# Altium schematic symbol library FPGA_Xilinx_Virtex7.SchLib: 34 symbols (part 8 of 26)
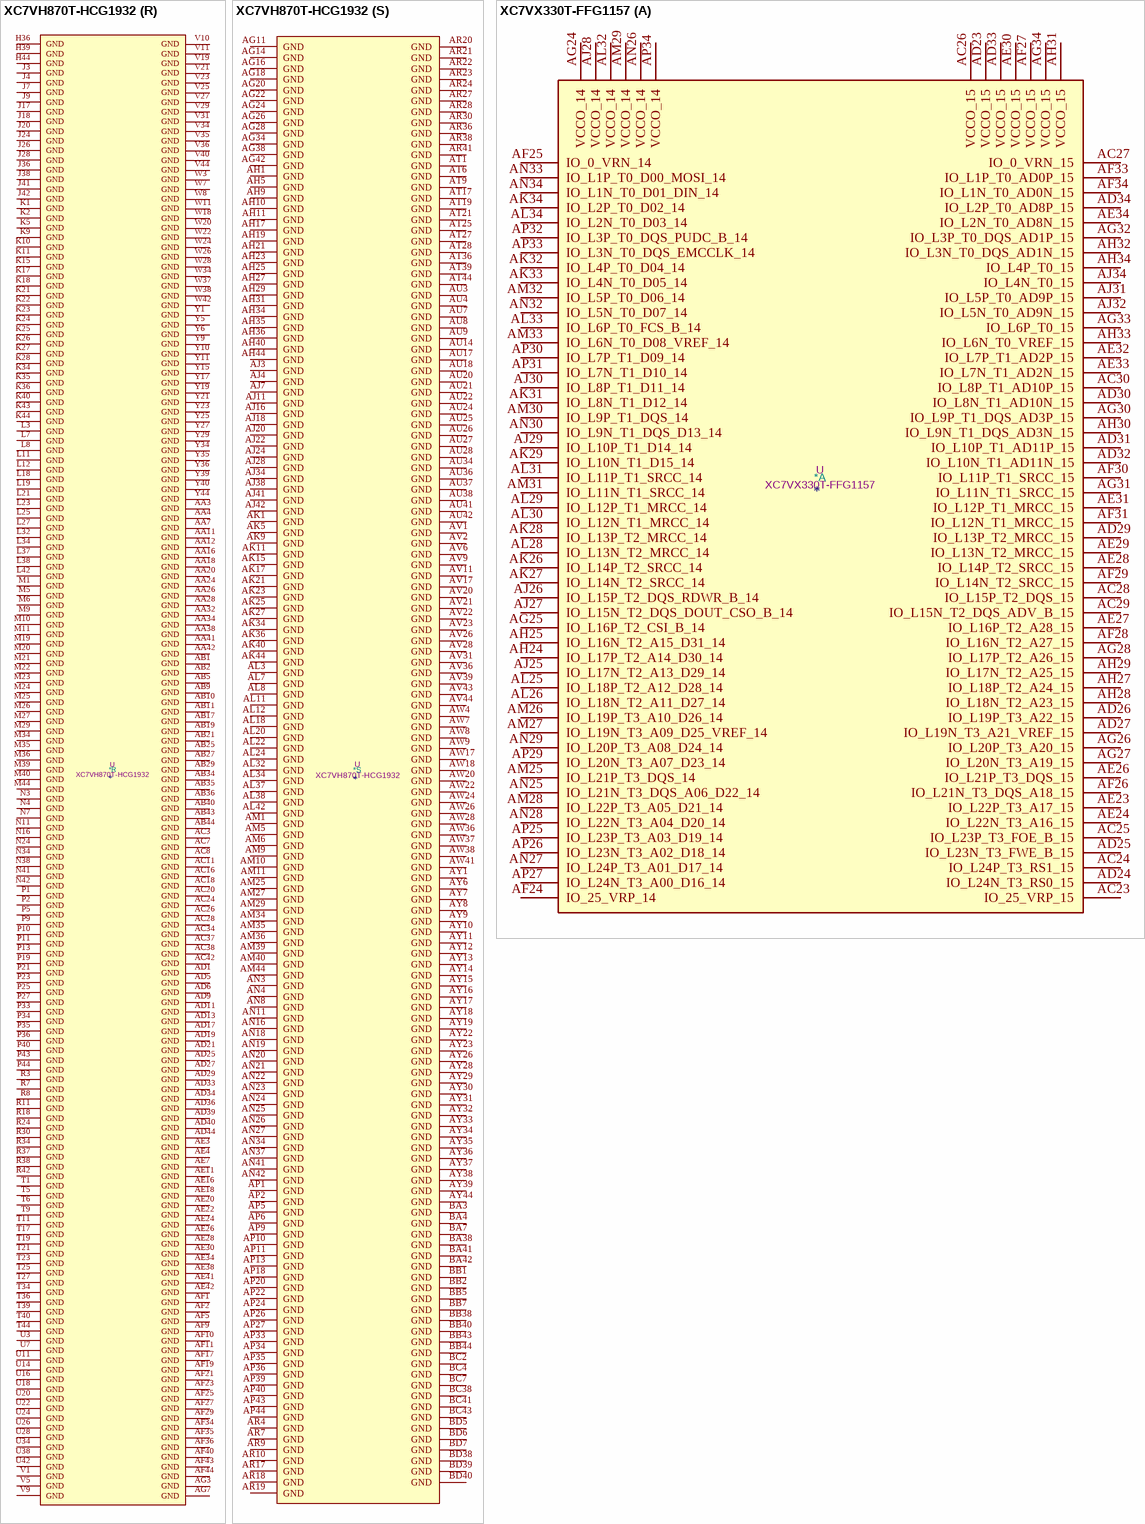
[diagram p179: symbols XC7VH870T-HCG1932 to XC7VX330T-FFG1157]

## XC7VH870T-HCG1932
designator *  value XC7VH870T-HCG1932  Reference: U
Virtex 7 HT 870 XC7VH870T-FLG1932; ki_keywords: FPGA; Description_: Virtex 7 HT 870 XC7VH870T-FLG1932
part A pins: AA30 IO_L11P_T1_SRCC_14, AA31 IO_L11N_T1_SRCC_14, AA33 IO_L7P_T1_D09_14, AB30 IO_L12P_T1_MRCC_14, AB31 IO_L12N_T1_MRCC_14, AB32 IO_L9P_T1_DQS_14, AB33 IO_L9N_T1_DQS_D13_14, AC30 IO_L13P_T2_MRCC_14, AC31 VCCO_14, AC32 IO_L17P_T2_A14_D30_14, AC33 IO_L17N_T2_A13_D29_14, AD30 IO_L13N_T2_MRCC_14, AD31 IO_L14P_T2_SRCC_14, AD32 IO_L14N_T2_SRCC_14, AE31 IO_L16P_T2_CSI_B_14, AE32 IO_L16N_T2_A15_D31_14, AE33 IO_L18P_T2_A12_D28_14, AF30 IO_L15P_T2_DQS_RDWR_B_14, AF31 IO_L15N_T2_DQS_DOUT_CSO_B_14, AF32 VCCO_14, AF33 IO_L18N_T2_A11_D27_14, AG30 IO_L20P_T3_A08_D24_14, AG31 IO_L20N_T3_A07_D23_14, AG32 IO_L19P_T3_A10_D26_14, AG33 IO_L19N_T3_A09_D25_VREF_14, AH30 IO_L23P_T3_A03_D19_14, AH32 IO_L24P_T3_A01_D17_14, AH33 IO_L24N_T3_A00_D16_14, AJ29 IO_25_VRP_14, AJ30 IO_L23N_T3_A02_D18_14, AJ31 IO_L21P_T3_DQS_14, AJ32 IO_L21N_T3_DQS_A06_D22_14, AJ33 VCCO_14, AK28 IO_L16P_T2_13, AK29 IO_L18P_T2_13, AK30 VCCO_13, AK31 IO_L3P_T0_DQS_13, AK32 IO_L22P_T3_A05_D21_14, AK33 IO_L22N_T3_A04_D20_14, AL28 IO_L16N_T2_13, AL29 IO_L18N_T2_13, AL30 IO_L15P_T2_DQS_13, AL31 IO_L3N_T0_DQS_13, AL33 IO_L1P_T0_13, AM28 IO_L17P_T2_13, AM30 IO_L15N_T2_DQS_13, AM31 IO_L5P_T0_13, AM32 IO_L5N_T0_13, AM33 IO_L1N_T0_13, AN28 IO_L17N_T2_13, AN29 IO_L14P_T2_SRCC_13, AN30 IO_L14N_T2_SRCC_13, AN31 VCCO_13, AN32 IO_L4P_T0_13, AN33 IO_L4N_T0_13, AP28 VCCO_13, AP29 IO_L13P_T2_MRCC_13, AP30 IO_L13N_T2_MRCC_13, AP31 IO_L11P_T1_SRCC_13, AP32 IO_L6P_T0_13, AR29 IO_L20P_T3_13, AR31 IO_L11N_T1_SRCC_13, AR32 IO_L6N_T0_VREF_13, AR33 IO_L2P_T0_13, AR34 IO_L2N_T0_13, AR35 VCCO_13, AT29 IO_L20N_T3_13, AT30 IO_L24P_T3_13, AT31 IO_L12P_T1_MRCC_13, AT32 VCCO_13, AT33 IO_L9P_T1_DQS_13, AT34 IO_L9N_T1_DQS_13, AT35 IO_L8P_T1_13, AU29 VCCO_13, AU30 IO_L24N_T3_13, AU31 IO_L12N_T1_MRCC_13, AU32 IO_L7P_T1_13, AU33 IO_L7N_T1_13, AU35 IO_L8N_T1_13, AV29 IO_L22P_T3_13, AV30 IO_L22N_T3_13, AV32 IO_L19P_T3_13, AV33 IO_L21P_T3_DQS_13, AV34 IO_L21N_T3_DQS_13, AV35 IO_L10P_T1_13, AW29 IO_25_VRP_13, AW30 IO_L23P_T3_13, AW31 IO_L23N_T3_13, AW32 IO_L19N_T3_VREF_13, AW33 VCCO_13, AW34 IO_0_VRN_13, AW35 IO_L10N_T1_13, R33 IO_L1N_T0_D01_DIN_14, T29 IO_0_VRN_14, T30 IO_L4N_T0_D05_14, T31 IO_L2N_T0_D03_14, T32 VCCO_14, T33 IO_L1P_T0_D00_MOSI_14, U30 IO_L4P_T0_D04_14, U31 IO_L2P_T0_D02_14, U32 IO_L6N_T0_D08_VREF_14, U33 IO_L5N_T0_D07_14, V30 IO_L3N_T0_DQS_EMCCLK_14, V32 IO_L6P_T0_FCS_B_14, V33 IO_L5P_T0_D06_14, W30 IO_L3P_T0_DQS_PUDC_B_14, W31 IO_L8N_T1_D12_14, W32 IO_L10N_T1_D15_14, W33 VCCO_14, Y30 VCCO_14, Y31 IO_L8P_T1_D11_14, Y32 IO_L10P_T1_D14_14, Y33 IO_L7N_T1_D10_14
part B pins: AK13 IO_L1P_T0_33, AK14 IO_L3P_T0_DQS_33, AK16 IO_L18P_T2_33, AL13 IO_L1N_T0_33, AL14 IO_L3N_T0_DQS_33, AL15 IO_L15P_T2_DQS_33, AL16 IO_L18N_T2_33, AL17 VCCO_33, AM12 IO_L5N_T0_33, AM13 IO_L5P_T0_33, AM14 VCCO_33, AM15 IO_L15N_T2_DQS_33, AM16 IO_L16N_T2_33, AM17 IO_L16P_T2_33, AN12 IO_L4N_T0_33, AN13 IO_L4P_T0_33, AN14 IO_L14N_T2_SRCC_33, AN15 IO_L14P_T2_SRCC_33, AN17 IO_L17P_T2_33, AP12 IO_L6N_T0_VREF_33, AP14 IO_L11P_T1_SRCC_33, AP15 IO_L13N_T2_MRCC_33, AP16 IO_L13P_T2_MRCC_33, AP17 IO_L17N_T2_33, AR11 IO_L2N_T0_33, AR12 IO_L2P_T0_33, AR13 IO_L6P_T0_33, AR14 IO_L11N_T1_SRCC_33, AR15 VCCO_33, AR16 IO_L20P_T3_33, AT10 IO_L8P_T1_33, AT11 IO_L9P_T1_DQS_33, AT12 VCCO_33, AT13 IO_L12N_T1_MRCC_33, AT14 IO_L12P_T1_MRCC_33, AT15 IO_L24P_T3_33, AT16 IO_L20N_T3_33, AU10 IO_L8N_T1_33, AU11 IO_L9N_T1_DQS_33, AU12 IO_L7N_T1_33, AU13 IO_L7P_T1_33, AU15 IO_L24N_T3_33, AU16 IO_25_VRP_33, AV10 IO_L10P_T1_33, AV12 IO_L19N_T3_VREF_33, AV13 IO_L19P_T3_33, AV14 IO_L22N_T3_33, AV15 IO_L22P_T3_33, AV16 VCCO_33, AW10 IO_L10N_T1_33, AW11 IO_L21N_T3_DQS_33, AW12 IO_L21P_T3_DQS_33, AW13 VCCO_33, AW14 IO_0_VRN_33, AW15 IO_L23N_T3_33, AW16 IO_L23P_T3_33, F29 IO_L8P_T1_AD10P_15, F30 IO_L8N_T1_AD10N_15, F31 IO_L9N_T1_DQS_AD3N_15, F32 VCCO_15, F33 IO_L10P_T1_AD11P_15, F34 IO_L10N_T1_AD11N_15, F35 IO_0_VRN_15, G29 VCCO_15, G30 IO_L6N_T0_VREF_15, G31 IO_L9P_T1_DQS_AD3P_15, G32 IO_L12N_T1_MRCC_15, G33 IO_L7N_T1_AD2N_15, G35 IO_L21N_T3_DQS_A18_15, H29 IO_L6P_T0_15, H30 IO_L18N_T2_A23_15, H32 IO_L12P_T1_MRCC_15, H33 IO_L7P_T1_AD2P_15, H34 IO_L21P_T3_DQS_15, H35 IO_L19N_T3_A21_VREF_15, J29 IO_L4N_T0_15, J30 IO_L18P_T2_A24_15, J31 IO_L17N_T2_A25_15, J32 IO_L11N_T1_SRCC_15, J33 VCCO_15, J34 IO_L24N_T3_RS0_15, J35 IO_L19P_T3_A22_15, K29 IO_L4P_T0_15, K30 VCCO_15, K31 IO_L17P_T2_A26_15, K32 IO_L11P_T1_SRCC_15, K33 IO_L24P_T3_RS1_15, L28 IO_L1P_T0_AD0P_15, L29 IO_L1N_T0_AD0N_15, L30 IO_L14N_T2_SRCC_15, L31 IO_L13N_T2_MRCC_15, L33 IO_25_VRP_15, M28 IO_L3N_T0_DQS_AD1N_15, M30 IO_L14P_T2_SRCC_15, M31 IO_L13P_T2_MRCC_15, M32 IO_L22N_T3_A16_15, M33 IO_L23N_T3_FWE_B_15, N28 IO_L3P_T0_DQS_AD1P_15, N29 IO_L5N_T0_AD9N_15, N30 IO_L15N_T2_DQS_ADV_B_15, N31 VCCO_15, N32 IO_L22P_T3_A17_15, N33 IO_L23P_T3_FOE_B_15, P28 VCCO_15, P29 IO_L5P_T0_AD9P_15, P30 IO_L15P_T2_DQS_15, P31 IO_L16N_T2_A27_15, P32 IO_L20N_T3_A19_15, R28 IO_L2P_T0_AD8P_15, R29 IO_L2N_T0_AD8N_15, R31 IO_L16P_T2_A28_15, R32 IO_L20P_T3_A20_15
part C pins: AA13 IO_L9P_T1_DQS_34, AA14 IO_L11N_T1_SRCC_34, AA15 IO_L11P_T1_SRCC_34, AB12 IO_L17N_T2_34, AB13 IO_L17P_T2_34, AB14 VCCO_34, AB15 IO_L12P_T1_MRCC_34, AC12 IO_L16P_T2_34, AC13 IO_L14N_T2_SRCC_34, AC14 IO_L14P_T2_SRCC_34, AC15 IO_L12N_T1_MRCC_34, AD12 IO_L16N_T2_34, AD14 IO_L13N_T2_MRCC_34, AD15 IO_L13P_T2_MRCC_34, AE12 IO_L18N_T2_34, AE13 IO_L18P_T2_34, AE14 IO_L15P_T2_DQS_34, AE15 VCCO_34, AF12 VCCO_34, AF13 IO_L19P_T3_34, AF14 IO_L15N_T2_DQS_34, AF15 IO_L20P_T3_34, AG12 IO_L24P_T3_34, AG13 IO_L19N_T3_VREF_34, AG15 IO_L20N_T3_34, AH12 IO_L24N_T3_34, AH13 IO_L21N_T3_DQS_34, AH14 IO_L21P_T3_DQS_34, AH15 IO_L23P_T3_34, AJ12 IO_L22P_T3_34, AJ13 VCCO_34, AJ14 IO_25_VRP_34, AJ15 IO_L23N_T3_34, AK12 IO_L22N_T3_34, F10 IO_0_VRN_35, F11 IO_L19N_T3_VREF_35, F12 VCCO_35, F13 IO_L10N_T1_AD15N_35, F14 IO_L10P_T1_AD15P_35, F15 IO_L9N_T1_DQS_AD7N_35, F16 IO_L9P_T1_DQS_AD7P_35, G10 IO_L24N_T3_35, G11 IO_L19P_T3_35, G12 IO_L7N_T1_AD6N_35, G13 IO_L7P_T1_AD6P_35, G15 IO_L18N_T2_35, G16 IO_L18P_T2_35, H10 IO_L24P_T3_35, H12 IO_L8N_T1_AD14N_35, H13 IO_L8P_T1_AD14P_35, H14 IO_L12N_T1_MRCC_35, H15 IO_L17N_T2_35, H16 VCCO_35, J10 IO_L21N_T3_DQS_35, J11 IO_L21P_T3_DQS_35, J12 IO_L23N_T3_35, J13 VCCO_35, J14 IO_L12P_T1_MRCC_35, J15 IO_L17P_T2_35, J16 IO_L4N_T0_35, K12 IO_L23P_T3_35, K13 IO_L11N_T1_SRCC_35, K14 IO_L13N_T2_MRCC_35, K16 IO_L4P_T0_35, L13 IO_L11P_T1_SRCC_35, L14 IO_L13P_T2_MRCC_35, L15 IO_L14N_T2_SRCC_35, L16 IO_L6N_T0_VREF_35, L17 VCCO_35, M12 IO_L22N_T3_35, M13 IO_L20N_T3_35, M14 VCCO_35, M15 IO_L14P_T2_SRCC_35, M16 IO_L6P_T0_35, M17 IO_L1N_T0_AD4N_35, M18 IO_L3N_T0_DQS_AD5N_35, N12 IO_L22P_T3_35, N13 IO_L20P_T3_35, N14 IO_L16N_T2_35, N15 IO_L15N_T2_DQS_35, N17 IO_L1P_T0_AD4P_35, N18 IO_L3P_T0_DQS_AD5P_35, P12 IO_25_VRP_35, P14 IO_L16P_T2_35, P15 IO_L15P_T2_DQS_35, P16 IO_L5N_T0_AD13N_35, P17 IO_L5P_T0_AD13P_35, P18 VCCO_35, R12 IO_L1N_T0_34, R13 IO_L1P_T0_34, R14 IO_L2N_T0_34, R15 VCCO_35, R16 IO_L2N_T0_AD12N_35, R17 IO_L2P_T0_AD12P_35, T12 VCCO_34, T13 IO_L6N_T0_VREF_34, T14 IO_L2P_T0_34, T15 IO_L4N_T0_34, T16 IO_0_VRN_34, U12 IO_L5N_T0_34, U13 IO_L6P_T0_34, U15 IO_L4P_T0_34, V12 IO_L5P_T0_34, V13 IO_L10N_T1_34, V14 IO_L10P_T1_34, V15 IO_L3N_T0_DQS_34, W12 IO_L7N_T1_34, W13 VCCO_34, W14 IO_L8N_T1_34, W15 IO_L3P_T0_DQS_34, Y12 IO_L7P_T1_34, Y13 IO_L9N_T1_DQS_34, Y14 IO_L8P_T1_34
part D pins: AM7 MGTREFCLK0N_111, AM8 MGTREFCLK0P_111, AN1 MGTHTXN3_111, AN2 MGTHTXP3_111, AN9 MGTREFCLK1N_111, AN10 MGTREFCLK1P_111, AP3 MGTHTXN2_111, AP4 MGTHTXP2_111, AP7 MGTREFCLK0N_110, AP8 MGTREFCLK0P_110, AR1 MGTHTXN1_111, AR2 MGTHTXP1_111, AR5 MGTHRXN3_111, AR6 MGTHRXP3_111, AT3 MGTHRXN2_111, AT4 MGTHRXP2_111, AT7 MGTREFCLK1N_110, AT8 MGTREFCLK1P_110, AU1 MGTHTXN0_111, AU2 MGTHTXP0_111, AU5 MGTHRXN1_111, AU6 MGTHRXP1_111, AV3 MGTHRXN0_111, AV4 MGTHRXP0_111, AW1 MGTHTXN3_110, AW2 MGTHTXP3_110, AW5 MGTHRXN3_110, AW6 MGTHRXP3_110, AY3 MGTHRXN2_110, AY4 MGTHRXP2_110, BA1 MGTHTXN2_110, BA2 MGTHTXP2_110, BA5 MGTHRXN1_110, BA6 MGTHRXP1_110, BB3 MGTHTXN1_110, BB4 MGTHTXP1_110, BC5 MGTHRXN0_110, BC6 MGTHRXP0_110, BD3 MGTHTXN0_110, BD4 MGTHTXP0_110
part E pins: AD7 MGTHRXN3_113, AD8 MGTHRXP3_113, AE1 MGTHTXN3_113, AE2 MGTHTXP3_113, AE5 MGTHRXN2_113, AE6 MGTHRXP2_113, AF3 MGTHTXN2_113, AF4 MGTHTXP2_113, AF7 MGTHRXN1_113, AF8 MGTHRXP1_113, AG1 MGTHTXN1_113, AG2 MGTHTXP1_113, AG5 MGTHRXN0_113, AG6 MGTHRXP0_113, AG9 MGTREFCLK0N_113, AG10 MGTREFCLK0P_113, AH3 MGTHTXN0_113, AH4 MGTHTXP0_113, AH7 MGTHRXN3_112, AH8 MGTHRXP3_112, AJ1 MGTHTXN3_112, AJ2 MGTHTXP3_112, AJ5 MGTHRXN2_112, AJ6 MGTHRXP2_112, AJ9 MGTREFCLK1N_113, AJ10 MGTREFCLK1P_113, AK3 MGTHTXN2_112, AK4 MGTHTXP2_112, AK7 MGTREFCLK0N_112, AK8 MGTREFCLK0P_112, AL1 MGTHTXN1_112, AL2 MGTHTXP1_112, AL5 MGTHRXN1_112, AL6 MGTHRXP1_112, AL9 MGTREFCLK1N_112, AL10 MGTREFCLK1P_112, AM3 MGTHTXN0_112, AM4 MGTHTXP0_112, AN5 MGTHRXN0_112, AN6 MGTHRXP0_112
part F pins: AA1 MGTHTXN3_114, AA2 MGTHTXP3_114, AA5 MGTHRXN2_114, AA6 MGTHRXP2_114, AB3 MGTHTXN2_114, AB4 MGTHTXP2_114, AB7 MGTHRXN1_114, AB8 MGTHRXP1_114, AC1 MGTHTXN1_114, AC2 MGTHTXP1_114, AC5 MGTHRXN0_114, AC6 MGTHRXP0_114, AC9 MGTREFCLK0N_114, AC10 MGTREFCLK0P_114, AD3 MGTHTXN0_114, AD4 MGTHTXP0_114, AE9 MGTREFCLK1N_114, AE10 MGTREFCLK1P_114, T7 MGTHRXN3_115, T8 MGTHRXP3_115, U1 MGTHTXN3_115, U2 MGTHTXP3_115, U5 MGTHRXN2_115, U6 MGTHRXP2_115, U9 MGTREFCLK0N_115, U10 MGTREFCLK0P_115, V3 MGTHTXN2_115, V4 MGTHTXP2_115, V7 MGTHRXN1_115, V8 MGTHRXP1_115, W1 MGTHTXN1_115, W2 MGTHTXP1_115, W5 MGTHRXN0_115, W6 MGTHRXP0_115, W9 MGTREFCLK1N_115, W10 MGTREFCLK1P_115, Y3 MGTHTXN0_115, Y4 MGTHTXP0_115, Y7 MGTHRXN3_114, Y8 MGTHRXP3_114
part G pins: F3 MGTHRXN3_117, F4 MGTHRXP3_117, G5 MGTHRXN2_117, G6 MGTHRXP2_117, H3 MGTHRXN1_117, H4 MGTHRXP1_117, J1 MGTHTXN3_117, J2 MGTHTXP3_117, J5 MGTHRXN0_117, J6 MGTHRXP0_117, K3 MGTHTXN2_117, K4 MGTHTXP2_117, L1 MGTHTXN1_117, L2 MGTHTXP1_117, L5 MGTHRXN3_116, L6 MGTHRXP3_116, L9 MGTREFCLK0N_117, L10 MGTREFCLK0P_117, M3 MGTHTXN0_117, M4 MGTHTXP0_117, M7 MGTREFCLK1N_117, M8 MGTREFCLK1P_117, N1 MGTHTXN3_116, N2 MGTHTXP3_116, N5 MGTHRXN2_116, N6 MGTHRXP2_116, N9 MGTREFCLK0N_116, N10 MGTREFCLK0P_116, P3 MGTHTXN2_116, P4 MGTHTXP2_116, P7 MGTHRXN1_116, P8 MGTHRXP1_116, R1 MGTHTXN1_116, R2 MGTHTXP1_116, R5 MGTHRXN0_116, R6 MGTHRXP0_116, R9 MGTREFCLK1N_116, R10 MGTREFCLK1P_116, T3 MGTHTXN0_116, T4 MGTHTXP0_116
part H pins: A5 MGTHRXN3_118, A6 MGTHRXP3_118, AP37 MGTREFCLK0P_210, AP38 MGTREFCLK0N_210, AT37 MGTREFCLK1P_210, AT38 MGTREFCLK1N_210, AW39 MGTHRXP3_210, AW40 MGTHRXN3_210, AW43 MGTHTXP3_210, AW44 MGTHTXN3_210, AY41 MGTHRXP2_210, AY42 MGTHRXN2_210, B3 MGTHTXN3_118, B4 MGTHTXP3_118, BA39 MGTHRXP1_210, BA40 MGTHRXN1_210, BA43 MGTHTXP2_210, BA44 MGTHTXN2_210, BB41 MGTHTXP1_210, BB42 MGTHTXN1_210, BC39 MGTHRXP0_210, BC40 MGTHRXN0_210, BD41 MGTHTXP0_210, BD42 MGTHTXN0_210, C1 MGTHTXN2_118, C2 MGTHTXP2_118, C5 MGTHRXN2_118, C6 MGTHRXP2_118, D3 MGTHRXN1_118, D4 MGTHRXP1_118, E1 MGTHTXN1_118, E2 MGTHTXP1_118, E5 MGTHRXN0_118, E6 MGTHRXP0_118, G1 MGTHTXN0_118, G2 MGTHTXP0_118, H7 MGTREFCLK0N_118, H8 MGTREFCLK0P_118, K7 MGTREFCLK1N_118, K8 MGTREFCLK1P_118
part I pins: AH37 MGTHRXP3_212, AH38 MGTHRXN3_212, AJ39 MGTHRXP2_212, AJ40 MGTHRXN2_212, AJ43 MGTHTXP3_212, AJ44 MGTHTXN3_212, AK37 MGTREFCLK0P_212, AK38 MGTREFCLK0N_212, AK41 MGTHTXP2_212, AK42 MGTHTXN2_212, AL35 MGTREFCLK1P_212, AL36 MGTREFCLK1N_212, AL39 MGTHRXP1_212, AL40 MGTHRXN1_212, AL43 MGTHTXP1_212, AL44 MGTHTXN1_212, AM37 MGTREFCLK0P_211, AM38 MGTREFCLK0N_211, AM41 MGTHTXP0_212, AM42 MGTHTXN0_212, AN35 MGTREFCLK1P_211, AN36 MGTREFCLK1N_211, AN39 MGTHRXP0_212, AN40 MGTHRXN0_212, AN43 MGTHTXP3_211, AN44 MGTHTXN3_211, AP41 MGTHTXP2_211, AP42 MGTHTXN2_211, AR39 MGTHRXP3_211, AR40 MGTHRXN3_211, AR43 MGTHTXP1_211, AR44 MGTHTXN1_211, AT41 MGTHRXP2_211, AT42 MGTHRXN2_211, AU39 MGTHRXP1_211, AU40 MGTHRXN1_211, AU43 MGTHTXP0_211, AU44 MGTHTXN0_211, AV41 MGTHRXP0_211, AV42 MGTHRXN0_211
part J pins: AA39 MGTHRXP2_214, AA40 MGTHRXN2_214, AA43 MGTHTXP3_214, AA44 MGTHTXN3_214, AB37 MGTHRXP1_214, AB38 MGTHRXN1_214, AB41 MGTHTXP2_214, AB42 MGTHTXN2_214, AC35 MGTREFCLK0P_214, AC36 MGTREFCLK0N_214, AC39 MGTHRXP0_214, AC40 MGTHRXN0_214, AC43 MGTHTXP1_214, AC44 MGTHTXN1_214, AD37 MGTHRXP3_213, AD38 MGTHRXN3_213, AD41 MGTHTXP0_214, AD42 MGTHTXN0_214, AE35 MGTREFCLK1P_214, AE36 MGTREFCLK1N_214, AE39 MGTHRXP2_213, AE40 MGTHRXN2_213, AE43 MGTHTXP3_213, AE44 MGTHTXN3_213, AF37 MGTHRXP1_213, AF38 MGTHRXN1_213, AF41 MGTHTXP2_213, AF42 MGTHTXN2_213, AG35 MGTREFCLK0P_213, AG36 MGTREFCLK0N_213, AG39 MGTHRXP0_213, AG40 MGTHRXN0_213, AG43 MGTHTXP1_213, AG44 MGTHTXN1_213, AH41 MGTHTXP0_213, AH42 MGTHTXN0_213, AJ35 MGTREFCLK1P_213, AJ36 MGTREFCLK1N_213, Y37 MGTHRXP3_214, Y38 MGTHRXN3_214
part K pins: L39 MGTHRXP3_216, L40 MGTHRXN3_216, N35 MGTREFCLK0P_216, N36 MGTREFCLK0N_216, N39 MGTHRXP2_216, N40 MGTHRXN2_216, N43 MGTHTXP3_216, N44 MGTHTXN3_216, P37 MGTHRXP1_216, P38 MGTHRXN1_216, P41 MGTHTXP2_216, P42 MGTHTXN2_216, R35 MGTREFCLK1P_216, R36 MGTREFCLK1N_216, R39 MGTHRXP0_216, R40 MGTHRXN0_216, R43 MGTHTXP1_216, R44 MGTHTXN1_216, T37 MGTHRXP3_215, T38 MGTHRXN3_215, T41 MGTHTXP0_216, T42 MGTHTXN0_216, U35 MGTREFCLK0P_215, U36 MGTREFCLK0N_215, U39 MGTHRXP2_215, U40 MGTHRXN2_215, U43 MGTHTXP3_215, U44 MGTHTXN3_215, V37 MGTHRXP1_215, V38 MGTHRXN1_215, V41 MGTHTXP2_215, V42 MGTHTXN2_215, W35 MGTREFCLK1P_215, W36 MGTREFCLK1N_215, W39 MGTHRXP0_215, W40 MGTHRXN0_215, W43 MGTHTXP1_215, W44 MGTHTXN1_215, Y41 MGTHTXP0_215, Y42 MGTHTXN0_215
part L pins: A39 MGTHRXP3_218, A40 MGTHRXN3_218, B41 MGTHTXP3_218, B42 MGTHTXN3_218, C39 MGTHRXP2_218, C40 MGTHRXN2_218, C43 MGTHTXP2_218, C44 MGTHTXN2_218, D41 MGTHRXP1_218, D42 MGTHRXN1_218, E39 MGTHRXP0_218, E40 MGTHRXN0_218, E43 MGTHTXP1_218, E44 MGTHTXN1_218, F41 MGTHRXP3_217, F42 MGTHRXN3_217, G39 MGTHRXP2_217, G40 MGTHRXN2_217, G43 MGTHTXP0_218, G44 MGTHTXN0_218, H37 MGTREFCLK0P_218, H38 MGTREFCLK0N_218, H41 MGTHRXP1_217, H42 MGTHRXN1_217, J39 MGTHRXP0_217, J40 MGTHRXN0_217, J43 MGTHTXP3_217, J44 MGTHTXN3_217, K37 MGTREFCLK1P_218, K38 MGTREFCLK1N_218, K41 MGTHTXP2_217, K42 MGTHTXN2_217, L35 MGTREFCLK0P_217, L36 MGTREFCLK0N_217, L43 MGTHTXP1_217, L44 MGTHTXN1_217, M37 MGTREFCLK1P_217, M38 MGTREFCLK1N_217, M41 MGTHTXP0_217, M42 MGTHTXN0_217
part M pins: AA8 MGTAVCC_G11, AA9 MGTRREF_115, AA10 MGTAVTTRCAL_115, AA35 MGTAVTTRCAL_215, AA36 MGTRREF_215, AA37 MGTAVCC_G21, AB6 MGTAVCC_G11, AB39 MGTAVCC_G21, AC4 MGTAVTT_G11, AC41 MGTAVTT_G21, AD2 MGTAVTT_G11, AD10 MGTVCCAUX_G11, AD35 MGTVCCAUX_G21, AD43 MGTAVTT_G21, AE8 MGTAVCC_G11, AE37 MGTAVCC_G21, AF6 MGTAVCC_G11, AF39 MGTAVCC_G21, AG4 MGTAVTT_G11, AG8 MGTAVCC_G11, AG37 MGTAVCC_G21, AG41 MGTAVTT_G21, AH2 MGTAVTT_G11, AH6 MGTAVCC_G11, AH39 MGTAVCC_G21, AH43 MGTAVTT_G21, AJ8 MGTAVCC_G10, AJ37 MGTAVCC_G20, AK2 MGTAVTT_G10, AK6 MGTAVCC_G10, AK10 MGTVCCAUX_G10, AK35 MGTVCCAUX_G20, AK39 MGTAVCC_G20, AK43 MGTAVTT_G20, AL4 MGTAVTT_G10, AL41 MGTAVTT_G20, AM2 MGTAVTT_G10, AM43 MGTAVTT_G20, AN7 MGTAVCC_G10, AN38 MGTAVCC_G20, AR3 MGTAVTT_G10, AR8 MGTAVCC_G10, AR37 MGTAVCC_G20, AR42 MGTAVTT_G20, AT2 MGTAVTT_G10, AT5 MGTAVCC_G10, AT40 MGTAVCC_G20, AT43 MGTAVTT_G20, AV5 MGTAVCC_G10, AV7 MGTRREF_112, AV8 MGTAVTTRCAL_112, AV37 MGTAVTTRCAL_212, AV38 MGTRREF_212, AV40 MGTAVCC_G20, AW3 MGTAVTT_G10, AW42 MGTAVTT_G20, AY2 MGTAVTT_G10, AY5 MGTAVCC_G10, AY40 MGTAVCC_G20, AY43 MGTAVTT_G20, B6 MGTAVCC_G12, B39 MGTAVCC_G22, BB6 MGTAVCC_G10, BB39 MGTAVCC_G20, BC3 MGTAVTT_G10, BC42 MGTAVTT_G20, C3 MGTAVTT_G12, C42 MGTAVTT_G22, D2 MGTAVTT_G12, D5 MGTAVCC_G12, D40 MGTAVCC_G22, D43 MGTAVTT_G22, F5 MGTAVCC_G12, F7 MGTRREF_118, F8 MGTAVTTRCAL_118, F37 MGTAVTTRCAL_218, F38 MGTRREF_218, F40 MGTAVCC_G22, G3 MGTAVTT_G12, G42 MGTAVTT_G22, H2 MGTAVTT_G12, H5 MGTAVCC_G12, H40 MGTAVCC_G22, H43 MGTAVTT_G22, J8 MGTAVCC_G12, J37 MGTAVCC_G22, K6 MGTAVCC_G12, K39 MGTAVCC_G22, L4 MGTAVTT_G12, L41 MGTAVTT_G22, M2 MGTAVTT_G12, M43 MGTAVTT_G22, N8 MGTAVCC_G12, N37 MGTAVCC_G22, P6 MGTAVCC_G12, P39 MGTAVCC_G22, R4 MGTAVTT_G12, R41 MGTAVTT_G22, T2 MGTAVTT_G12, T10 MGTVCCAUX_G12, T35 MGTVCCAUX_G22, T43 MGTAVTT_G22, U4 MGTAVTT_G11, U8 MGTAVCC_G11, U37 MGTAVCC_G21, U41 MGTAVTT_G21, V2 MGTAVTT_G11, V6 MGTAVCC_G11, V39 MGTAVCC_G21, V43 MGTAVTT_G21, W4 MGTAVTT_G11, W41 MGTAVTT_G21, Y2 MGTAVTT_G11, Y43 MGTAVTT_G21
part N pins: A9 MGTZRXN7_300, A10 MGTZRXP7_300, A12 MGTZRXN5_300, A13 MGTZRXP5_300, A16 MGTZTXN7_300, A17 MGTZTXP7_300, A19 MGTZTXN5_300, A20 MGTZTXP5_300, A24 MGTZRXN3_300, A25 MGTZRXP3_300, A27 MGTZRXN1_300, A28 MGTZRXP1_300, A31 MGTZTXN3_300, A32 MGTZTXP3_300, A34 MGTZTXN1_300, A35 MGTZTXP1_300, AT23 MGTZ_OBS_CLK_P_400, AU23 MGTZ_OBS_CLK_N_400, AV24 MGTZ_THERM_IN_400, AV25 MGTZ_THERM_OUT_400, AY20 MGTZREFCLK1P_400, AY21 MGTZREFCLK1N_400, AY24 MGTZREFCLK0P_400, AY25 MGTZREFCLK0N_400, BB9 MGTZTXP0_400, BB10 MGTZTXN0_400, BB12 MGTZTXP2_400, BB13 MGTZTXN2_400, BB16 MGTZRXP0_400, BB17 MGTZRXN0_400, BB19 MGTZRXP2_400, BB20 MGTZRXN2_400, BB24 MGTZTXP4_400, BB25 MGTZTXN4_400, BB27 MGTZTXP6_400, BB28 MGTZTXN6_400, BB31 MGTZRXP4_400, BB32 MGTZRXN4_400, BB34 MGTZRXP6_400, BB35 MGTZRXN6_400, BD10 MGTZTXP1_400, BD11 MGTZTXN1_400, BD13 MGTZTXP3_400, BD14 MGTZTXN3_400, BD17 MGTZRXP1_400, BD18 MGTZRXN1_400, BD20 MGTZRXP3_400, BD21 MGTZRXN3_400, BD25 MGTZTXP5_400, BD26 MGTZTXN5_400, BD28 MGTZTXP7_400, BD29 MGTZTXN7_400, BD32 MGTZRXP5_400, BD33 MGTZRXN5_400, BD35 MGTZRXP7_400, BD36 MGTZRXN7_400, C10 MGTZRXN6_300, C11 MGTZRXP6_300, C13 MGTZRXN4_300, C14 MGTZRXP4_300, C17 MGTZTXN6_300, C18 MGTZTXP6_300, C20 MGTZTXN4_300, C21 MGTZTXP4_300, C25 MGTZRXN2_300, C26 MGTZRXP2_300, C28 MGTZRXN0_300, C29 MGTZRXP0_300, C32 MGTZTXN2_300, C33 MGTZTXP2_300, C35 MGTZTXN0_300, C36 MGTZTXP0_300, E20 MGTZREFCLK0N_300, E21 MGTZREFCLK0P_300, E24 MGTZREFCLK1N_300, E25 MGTZREFCLK1P_300, G20 MGTZ_THERM_OUT_300, G21 MGTZ_THERM_IN_300, H22 MGTZ_OBS_CLK_N_300, J22 MGTZ_OBS_CLK_P_300
part O pins: A8 MGTZAGND_300, A11 MGTZAGND_300, A14 MGTZAGND_300, A15 MGTZAGND_300, A18 MGTZAGND_300, A21 MGTZAGND_300, A22 MGTZAGND_300, A23 MGTZAGND_300, A26 MGTZAGND_300, A29 MGTZAGND_300, A30 MGTZAGND_300, A33 MGTZAGND_300, A36 MGTZAGND_300, A37 MGTZAGND_300, AP19 MGTZVCCL_400, AP21 MGTZVCCL_400, AP23 MGTZVCCL_400, AP25 MGTZVCCL_400, AR25 MGTZ_SENSE_GNDL_400, AR26 MGTZ_SENSE_VCCL_400, AT18 MGTZVCCH_400, AT20 MGTZVCCH_400, AT22 MGTZVCCH_400, AT24 MGTZVCCH_400, AT26 MGTZVCCH_400, AU19 MGTZ_SENSE_VCC_400, AV18 MGTZ_SENSE_VCCH_400, AV19 MGTZ_SENSE_GND_400, AV27 MGTZVCCH_400, AW19 MGTZVCCH_400, AW21 MGTZVCCH_400, AW23 MGTZVCCH_400, AW25 MGTZVCCH_400, AW27 MGTZ_SENSE_AGND_400, AY27 MGTZ_SENSE_AVCC_400, B8 MGTZAGND_300, B9 MGTZAVCC_300, B10 MGTZAGND_300, B11 MGTZAVCC_300, B12 MGTZAGND_300, B13 MGTZAVCC_300, B14 MGTZAGND_300, B15 MGTZAVCC_300, B16 MGTZAGND_300, B17 MGTZAVCC_300, B18 MGTZAGND_300, B19 MGTZAVCC_300, B20 MGTZAGND_300, B21 MGTZAVCC_300, B22 MGTZAGND_300, B23 MGTZAVCC_300, B24 MGTZAGND_300, B25 MGTZAVCC_300, B26 MGTZAGND_300, B27 MGTZAVCC_300, B28 MGTZAGND_300, B29 MGTZAVCC_300, B30 MGTZAGND_300, B31 MGTZAVCC_300, B32 MGTZAGND_300, B33 MGTZAVCC_300, B34 MGTZAGND_300, B35 MGTZAVCC_300, B36 MGTZAGND_300, B37 MGTZAVCC_300, BA8 MGTZAGND_400, BA9 MGTZAGND_400, BA10 MGTZAGND_400, BA11 MGTZAGND_400, BA12 MGTZAGND_400, BA13 MGTZAGND_400, BA14 MGTZAGND_400, BA15 MGTZAGND_400, BA16 MGTZAGND_400, BA17 MGTZAGND_400, BA18 MGTZAGND_400, BA19 MGTZAGND_400, BA20 MGTZAGND_400, BA21 MGTZAGND_400, BA22 MGTZAGND_400, BA23 MGTZAGND_400, BA24 MGTZAGND_400, BA25 MGTZAGND_400, BA26 MGTZAGND_400, BA27 MGTZAGND_400, BA28 MGTZAGND_400, BA29 MGTZAGND_400, BA30 MGTZAGND_400, BA31 MGTZAGND_400, BA32 MGTZAGND_400, BA33 MGTZAGND_400, BA34 MGTZAGND_400, BA35 MGTZAGND_400, BA36 MGTZAGND_400, BA37 MGTZAGND_400, BB8 MGTZAGND_400, BB11 MGTZAGND_400, BB14 MGTZAGND_400, BB15 MGTZAGND_400, BB18 MGTZAGND_400, BB21 MGTZAGND_400, BB22 MGTZAGND_400, BB23 MGTZAGND_400, BB26 MGTZAGND_400, BB29 MGTZAGND_400, BB30 MGTZAGND_400, BB33 MGTZAGND_400, BB36 MGTZAGND_400, BB37 MGTZAGND_400, BC8 MGTZAVCC_400, BC9 MGTZAGND_400, BC10 MGTZAVCC_400, BC11 MGTZAGND_400, BC12 MGTZAVCC_400, BC13 MGTZAGND_400, BC14 MGTZAVCC_400, BC15 MGTZAGND_400, BC16 MGTZAVCC_400, BC17 MGTZAGND_400, BC18 MGTZAVCC_400, BC19 MGTZAGND_400, BC20 MGTZAVCC_400, BC21 MGTZAGND_400, BC22 MGTZAVCC_400, BC23 MGTZAGND_400, BC24 MGTZAVCC_400, BC25 MGTZAGND_400, BC26 MGTZAVCC_400, BC27 MGTZAGND_400, BC28 MGTZAVCC_400, BC29 MGTZAGND_400, BC30 MGTZAVCC_400, BC31 MGTZAGND_400, BC32 MGTZAVCC_400, BC33 MGTZAGND_400, BC34 MGTZAVCC_400, BC35 MGTZAGND_400, BC36 MGTZAVCC_400, BC37 MGTZAGND_400, BD8 MGTZAGND_400, BD9 MGTZAGND_400, BD12 MGTZAGND_400, BD15 MGTZAGND_400, BD16 MGTZAGND_400, BD19 MGTZAGND_400, BD22 MGTZAGND_400, BD23 MGTZAGND_400, BD24 MGTZAGND_400, BD27 MGTZAGND_400, BD30 MGTZAGND_400, BD31 MGTZAGND_400, BD34 MGTZAGND_400, BD37 MGTZAGND_400, C8 MGTZAGND_300, C9 MGTZAGND_300, C12 MGTZAGND_300, C15 MGTZAGND_300, C16 MGTZAGND_300, C19 MGTZAGND_300, C22 MGTZAGND_300, C23 MGTZAGND_300, C24 MGTZAGND_300, C27 MGTZAGND_300, C30 MGTZAGND_300, C31 MGTZAGND_300, C34 MGTZAGND_300, C37 MGTZAGND_300, D8 MGTZAGND_300, D9 MGTZAGND_300, D10 MGTZAGND_300, D11 MGTZAGND_300, D12 MGTZAGND_300, D13 MGTZAGND_300, D14 MGTZAGND_300, D15 MGTZAGND_300, D16 MGTZAGND_300, D17 MGTZAGND_300, D18 MGTZAGND_300, D19 MGTZAGND_300, D20 MGTZAGND_300, D21 MGTZAGND_300, D22 MGTZAGND_300, D23 MGTZAGND_300, D24 MGTZAGND_300, D25 MGTZAGND_300, D26 MGTZAGND_300, D27 MGTZAGND_300, D28 MGTZAGND_300, D29 MGTZAGND_300, D30 MGTZAGND_300, D31 MGTZAGND_300, D32 MGTZAGND_300, D33 MGTZAGND_300, D34 MGTZAGND_300, D35 MGTZAGND_300, D36 MGTZAGND_300, D37 MGTZAGND_300, E18 MGTZ_SENSE_AVCC_300, F18 MGTZ_SENSE_AGND_300, F20 MGTZVCCH_300, F22 MGTZVCCH_300, F24 MGTZVCCH_300, F26 MGTZVCCH_300, G18 MGTZVCCH_300, G26 MGTZ_SENSE_GND_300, G27 MGTZ_SENSE_VCCH_300, H26 MGTZ_SENSE_VCC_300, J19 MGTZVCCH_300, J21 MGTZVCCH_300, J23 MGTZVCCH_300, J25 MGTZVCCH_300, J27 MGTZVCCH_300, K19 MGTZ_SENSE_VCCL_300, K20 MGTZ_SENSE_GNDL_300, L20 MGTZVCCL_300, L22 MGTZVCCL_300, L24 MGTZVCCL_300, L26 MGTZVCCL_300
part P pins: AB22 VREFN_0, AB23 VP_0, AC22 VN_0, AC23 VREFP_0, AD22 DXN_0, AD23 DXP_0, AJ26 DONE_0, AK19 INIT_B_0, AL26 PROGRAM_B_0, AM19 M2_0, AM21 M1_0, AM23 M0_0, N20 TMS_0, N22 TCK_0, N26 TDO_0, R20 TDI_0, R26 CCLK_0, V17 VCCO_0, W16 VCCO_0
part Q pins: A3 GND, A4 GND, A7 GND, A38 GND, A41 GND, A42 GND, AA17 VCCINT, AA19 VCCAUX_IO_G2, AA21 VCCINT, AA22 GNDADC, AA23 VCCADC, AA25 VCCAUX_IO_G0, AA27 VCCINT, AA29 VCCINT, AB16 VCCINT, AB18 VCCAUX, AB20 VCCINT, AB24 VCCBRAM, AB26 VCCAUX, AB28 VCCINT, AC17 VCCINT, AC19 VCCAUX_IO_G2, AC21 VCCINT, AC25 VCCAUX_IO_G0, AC27 VCCINT, AC29 VCCINT, AD16 VCCINT, AD18 VCCAUX, AD20 VCCINT, AD24 VCCBRAM, AD26 VCCAUX, AD28 VCCINT, AE17 VCCINT, AE19 VCCINT, AE21 VCCINT, AE23 VCCINT, AE25 VCCINT, AE27 VCCINT, AE29 VCCINT, AF16 VCCINT, AF18 VCCAUX, AF20 VCCINT, AF22 VCCINT, AF24 VCCBRAM, AF26 VCCAUX, AF28 VCCINT, AG17 VCCINT, AG19 VCCINT, AG21 VCCINT, AG23 VCCINT, AG25 VCCINT, AG27 VCCINT, AG29 VCCINT, AH16 VCCINT, AH18 VCCAUX, AH20 VCCINT, AH22 VCCINT, AH24 VCCBRAM, AH26 VCCAUX, AH28 VCCINT, AJ17 VCCINT, AJ19 VCCINT, AJ21 VCCINT, AJ23 VCCINT, AJ25 VCCINT, AJ27 VCCINT, AK18 VCCINT, AK20 VCCINT, AK22 VCCINT, AK24 VCCBRAM, AK26 VCCINT, AL19 VCCINT, AL21 VCCINT, AL23 VCCINT, AL25 VCCINT, AL27 VCCINT, AM18 VCCINT, AM20 VCCINT, AM22 VCCINT, AM24 VCCBRAM, AM26 VCCINT, B2 GND, B5 GND, B7 GND, B38 GND, B40 GND, B43 GND, C4 GND, C7 GND, C38 GND, C41 GND, D1 GND, D6 GND, D7 GND, D38 GND, D39 GND, D44 GND, E3 GND, E4 GND, E7 GND, E8 GND, E9 GND, E10 GND, E11 GND, E12 GND, E13 GND, E14 GND, E15 GND, E16 GND, E17 GND, E19 GND, E22 GND, E23 GND, E26 GND, E27 GND, E28 GND, E29 GND, E30 GND, E31 GND, E32 GND, E33 GND, E34 GND, E35 GND, E36 GND, E37 GND, E38 GND, E41 GND, E42 GND, F1 GND, F2 GND, F6 GND, F9 GND, F17 GND, F19 GND, F21 GND, F23 GND, F25 GND, F27 GND, F28 GND, F36 GND, F39 GND, F43 GND, F44 GND, G4 GND, G7 GND, G8 GND, G9 GND, G14 GND, G17 GND, G19 GND, G22 GND, G23 GND, G24 GND, G25 GND, G28 GND, G34 GND, G36 GND, G37 GND, G38 GND, G41 GND, H1 GND, H6 GND, H9 GND, H11 GND, H17 GND, H18 GND, H19 GND, H20 GND, H21 GND, H23 GND, H24 GND, H25 GND, H27 GND, H28 GND, H31 GND, N19 VCCINT, N21 VCCINT, N23 VCCINT, N25 VCCINT, N27 VCCINT, P20 VCCINT, P22 VCCINT, P24 VCCBRAM, P26 VCCINT, R19 VCCINT, R21 VCCINT, R22 VCCBATT_0, R23 VCCINT, R25 VCCINT, R27 VCCINT, T18 VCCINT, T20 VCCINT, T22 VCCINT, T24 VCCBRAM, T26 VCCINT, T28 VCCINT, U17 VCCINT, U19 VCCINT, U21 VCCINT, U23 VCCINT, U25 VCCINT, U27 VCCINT, U29 VCCINT, V16 VCCINT, V18 VCCAUX, V20 VCCINT, V22 VCCINT, V24 VCCBRAM, V26 VCCAUX, V28 VCCINT, W17 VCCINT, W19 VCCAUX_IO_G2, W21 VCCINT, W23 VCCINT, W25 VCCAUX_IO_G0, W27 VCCINT, W29 VCCINT, Y16 VCCINT, Y18 VCCAUX, Y20 VCCINT, Y22 VCCINT, Y24 VCCBRAM, Y26 VCCAUX, Y28 VCCINT
part R pins: AA3 GND, AA4 GND, AA7 GND, AA11 GND, AA12 GND, AA16 GND, AA18 GND, AA20 GND, AA24 GND, AA26 GND, AA28 GND, AA32 GND, AA34 GND, AA38 GND, AA41 GND, AA42 GND, AB1 GND, AB2 GND, AB5 GND, AB9 GND, AB10 GND, AB11 GND, AB17 GND, AB19 GND, AB21 GND, AB25 GND, AB27 GND, AB29 GND, AB34 GND, AB35 GND, AB36 GND, AB40 GND, AB43 GND, AB44 GND, AC3 GND, AC7 GND, AC8 GND, AC11 GND, AC16 GND, AC18 GND, AC20 GND, AC24 GND, AC26 GND, AC28 GND, AC34 GND, AC37 GND, AC38 GND, AC42 GND, AD1 GND, AD5 GND, AD6 GND, AD9 GND, AD11 GND, AD13 GND, AD17 GND, AD19 GND, AD21 GND, AD25 GND, AD27 GND, AD29 GND, AD33 GND, AD34 GND, AD36 GND, AD39 GND, AD40 GND, AD44 GND, AE3 GND, AE4 GND, AE7 GND, AE11 GND, AE16 GND, AE18 GND, AE20 GND, AE22 GND, AE24 GND, AE26 GND, AE28 GND, AE30 GND, AE34 GND, AE38 GND, AE41 GND, AE42 GND, AF1 GND, AF2 GND, AF5 GND, AF9 GND, AF10 GND, AF11 GND, AF17 GND, AF19 GND, AF21 GND, AF23 GND, AF25 GND, AF27 GND, AF29 GND, AF34 GND, AF35 GND, AF36 GND, AF40 GND, AF43 GND, AF44 GND, AG3 GND, AG7 GND, H36 GND, H39 GND, H44 GND, J3 GND, J4 GND, J7 GND, J9 GND, J17 GND, J18 GND, J20 GND, J24 GND, J26 GND, J28 GND, J36 GND, J38 GND, J41 GND, J42 GND, K1 GND, K2 GND, K5 GND, K9 GND, K10 GND, K11 GND, K15 GND, K17 GND, K18 GND, K21 GND, K22 GND, K23 GND, K24 GND, K25 GND, K26 GND, K27 GND, K28 GND, K34 GND, K35 GND, K36 GND, K40 GND, K43 GND, K44 GND, L3 GND, L7 GND, L8 GND, L11 GND, L12 GND, L18 GND, L19 GND, L21 GND, L23 GND, L25 GND, L27 GND, L32 GND, L34 GND, L37 GND, L38 GND, L42 GND, M1 GND, M5 GND, M6 GND, M9 GND, M10 GND, M11 GND, M19 GND, M20 GND, M21 GND, M22 GND, M23 GND, M24 GND, M25 GND, M26 GND, M27 GND, M29 GND, M34 GND, M35 GND, M36 GND, M39 GND, M40 GND, M44 GND, N3 GND, N4 GND, N7 GND, N11 GND, N16 GND, N24 GND, N34 GND, N38 GND, N41 GND, N42 GND, P1 GND, P2 GND, P5 GND, P9 GND, P10 GND, P11 GND, P13 GND, P19 GND, P21 GND, P23 GND, P25 GND, P27 GND, P33 GND, P34 GND, P35 GND, P36 GND, P40 GND, P43 GND, P44 GND, R3 GND, R7 GND, R8 GND, R11 GND, R18 GND, R24 GND, R30 GND, R34 GND, R37 GND, R38 GND, R42 GND, T1 GND, T5 GND, T6 GND, T9 GND, T11 GND, T17 GND, T19 GND, T21 GND, T23 GND, T25 GND, T27 GND, T34 GND, T36 GND, T39 GND, T40 GND, T44 GND, U3 GND, U7 GND, U11 GND, U14 GND, U16 GND, U18 GND, U20 GND, U22 GND, U24 GND, U26 GND, U28 GND, U34 GND, U38 GND, U42 GND, V1 GND, V5 GND, V9 GND, V10 GND, V11 GND, V19 GND, V21 GND, V23 GND, V25 GND, V27 GND, V29 GND, V31 GND, V34 GND, V35 GND, V36 GND, V40 GND, V44 GND, W3 GND, W7 GND, W8 GND, W11 GND, W18 GND, W20 GND, W22 GND, W24 GND, W26 GND, W28 GND, W34 GND, W37 GND, W38 GND, W42 GND, Y1 GND, Y5 GND, Y6 GND, Y9 GND, Y10 GND, Y11 GND, Y15 GND, Y17 GND, Y19 GND, Y21 GND, Y23 GND, Y25 GND, Y27 GND, Y29 GND, Y34 GND, Y35 GND, Y36 GND, Y39 GND, Y40 GND, Y44 GND
part S pins: AG11 GND, AG14 GND, AG16 GND, AG18 GND, AG20 GND, AG22 GND, AG24 GND, AG26 GND, AG28 GND, AG34 GND, AG38 GND, AG42 GND, AH1 GND, AH5 GND, AH9 GND, AH10 GND, AH11 GND, AH17 GND, AH19 GND, AH21 GND, AH23 GND, AH25 GND, AH27 GND, AH29 GND, AH31 GND, AH34 GND, AH35 GND, AH36 GND, AH40 GND, AH44 GND, AJ3 GND, AJ4 GND, AJ7 GND, AJ11 GND, AJ16 GND, AJ18 GND, AJ20 GND, AJ22 GND, AJ24 GND, AJ28 GND, AJ34 GND, AJ38 GND, AJ41 GND, AJ42 GND, AK1 GND, AK5 GND, AK9 GND, AK11 GND, AK15 GND, AK17 GND, AK21 GND, AK23 GND, AK25 GND, AK27 GND, AK34 GND, AK36 GND, AK40 GND, AK44 GND, AL3 GND, AL7 GND, AL8 GND, AL11 GND, AL12 GND, AL18 GND, AL20 GND, AL22 GND, AL24 GND, AL32 GND, AL34 GND, AL37 GND, AL38 GND, AL42 GND, AM1 GND, AM5 GND, AM6 GND, AM9 GND, AM10 GND, AM11 GND, AM25 GND, AM27 GND, AM29 GND, AM34 GND, AM35 GND, AM36 GND, AM39 GND, AM40 GND, AM44 GND, AN3 GND, AN4 GND, AN8 GND, AN11 GND, AN16 GND, AN18 GND, AN19 GND, AN20 GND, AN21 GND, AN22 GND, AN23 GND, AN24 GND, AN25 GND, AN26 GND, AN27 GND, AN34 GND, AN37 GND, AN41 GND, AN42 GND, AP1 GND, AP2 GND, AP5 GND, AP6 GND, AP9 GND, AP10 GND, AP11 GND, AP13 GND, AP18 GND, AP20 GND, AP22 GND, AP24 GND, AP26 GND, AP27 GND, AP33 GND, AP34 GND, AP35 GND, AP36 GND, AP39 GND, AP40 GND, AP43 GND, AP44 GND, AR4 GND, AR7 GND, AR9 GND, AR10 GND, AR17 GND, AR18 GND, AR19 GND, AR20 GND, AR21 GND, AR22 GND, AR23 GND, AR24 GND, AR27 GND, AR28 GND, AR30 GND, AR36 GND, AR38 GND, AR41 GND, AT1 GND, AT6 GND, AT9 GND, AT17 GND, AT19 GND, AT21 GND, AT25 GND, AT27 GND, AT28 GND, AT36 GND, AT39 GND, AT44 GND, AU3 GND, AU4 GND, AU7 GND, AU8 GND, AU9 GND, AU14 GND, AU17 GND, AU18 GND, AU20 GND, AU21 GND, AU22 GND, AU24 GND, AU25 GND, AU26 GND, AU27 GND, AU28 GND, AU34 GND, AU36 GND, AU37 GND, AU38 GND, AU41 GND, AU42 GND, AV1 GND, AV2 GND, AV6 GND, AV9 GND, AV11 GND, AV17 GND, AV20 GND, AV21 GND, AV22 GND, AV23 GND, AV26 GND, AV28 GND, AV31 GND, AV36 GND, AV39 GND, AV43 GND, AV44 GND, AW4 GND, AW7 GND, AW8 GND, AW9 GND, AW17 GND, AW18 GND, AW20 GND, AW22 GND, AW24 GND, AW26 GND, AW28 GND, AW36 GND, AW37 GND, AW38 GND, AW41 GND, AY1 GND, AY6 GND, AY7 GND, AY8 GND, AY9 GND, AY10 GND, AY11 GND, AY12 GND, AY13 GND, AY14 GND, AY15 GND, AY16 GND, AY17 GND, AY18 GND, AY19 GND, AY22 GND, AY23 GND, AY26 GND, AY28 GND, AY29 GND, AY30 GND, AY31 GND, AY32 GND, AY33 GND, AY34 GND, AY35 GND, AY36 GND, AY37 GND, AY38 GND, AY39 GND, AY44 GND, BA3 GND, BA4 GND, BA7 GND, BA38 GND, BA41 GND, BA42 GND, BB1 GND, BB2 GND, BB5 GND, BB7 GND, BB38 GND, BB40 GND, BB43 GND, BB44 GND, BC2 GND, BC4 GND, BC7 GND, BC38 GND, BC41 GND, BC43 GND, BD5 GND, BD6 GND, BD7 GND, BD38 GND, BD39 GND, BD40 GND

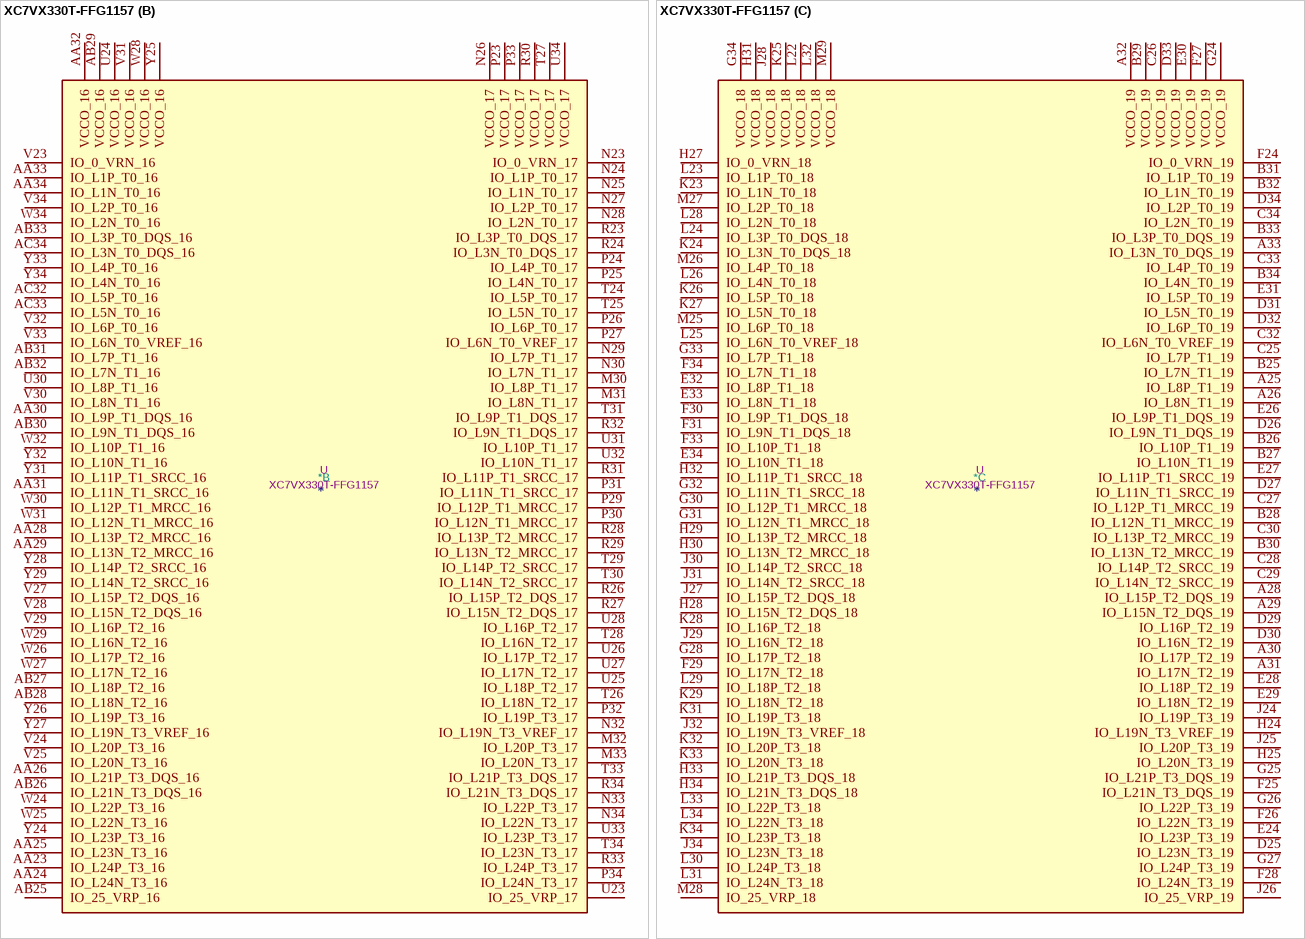
[diagram p51: symbol XC7VX330T-FFG1157]

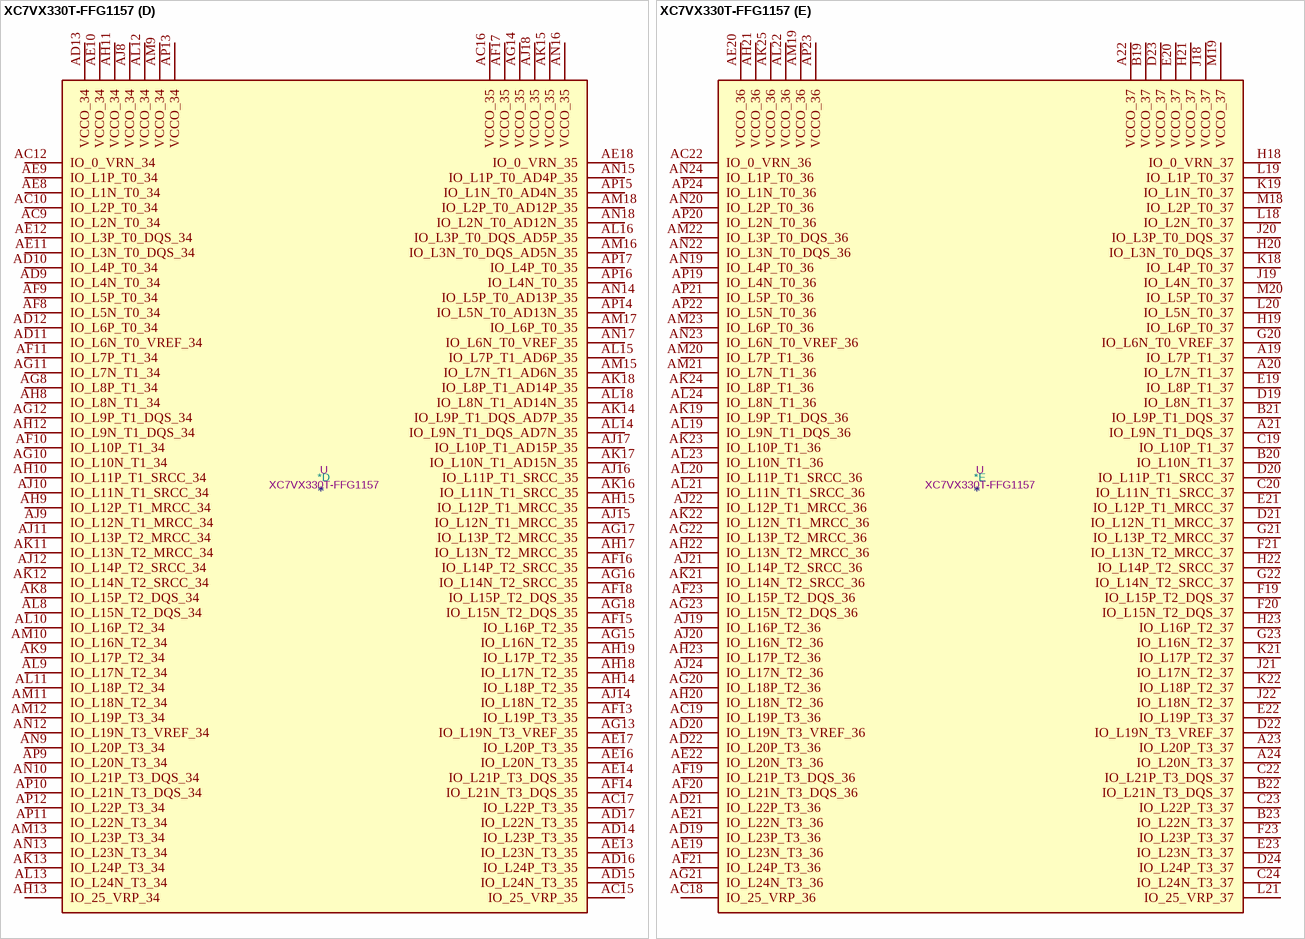
[diagram p52: symbol XC7VX330T-FFG1157]

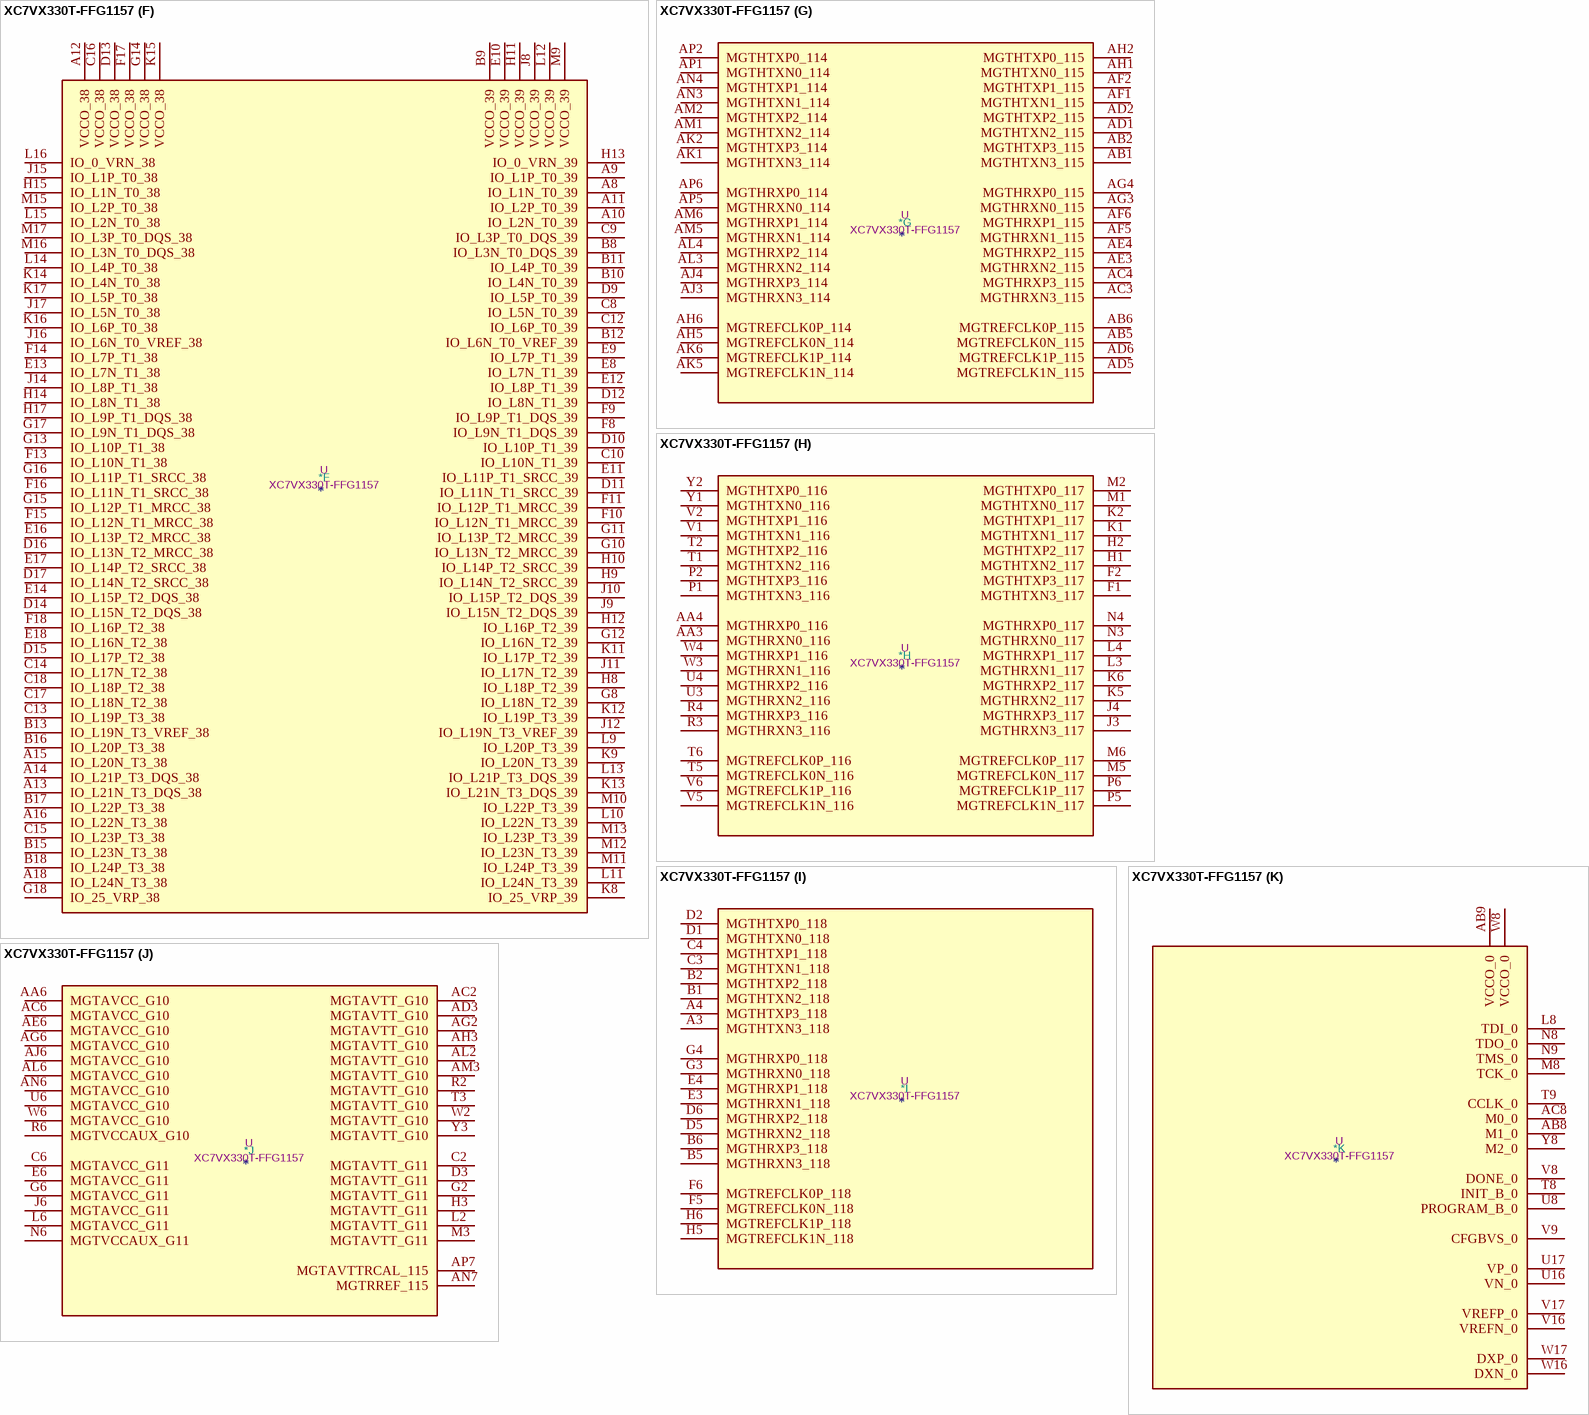
[diagram p53: symbol XC7VX330T-FFG1157]

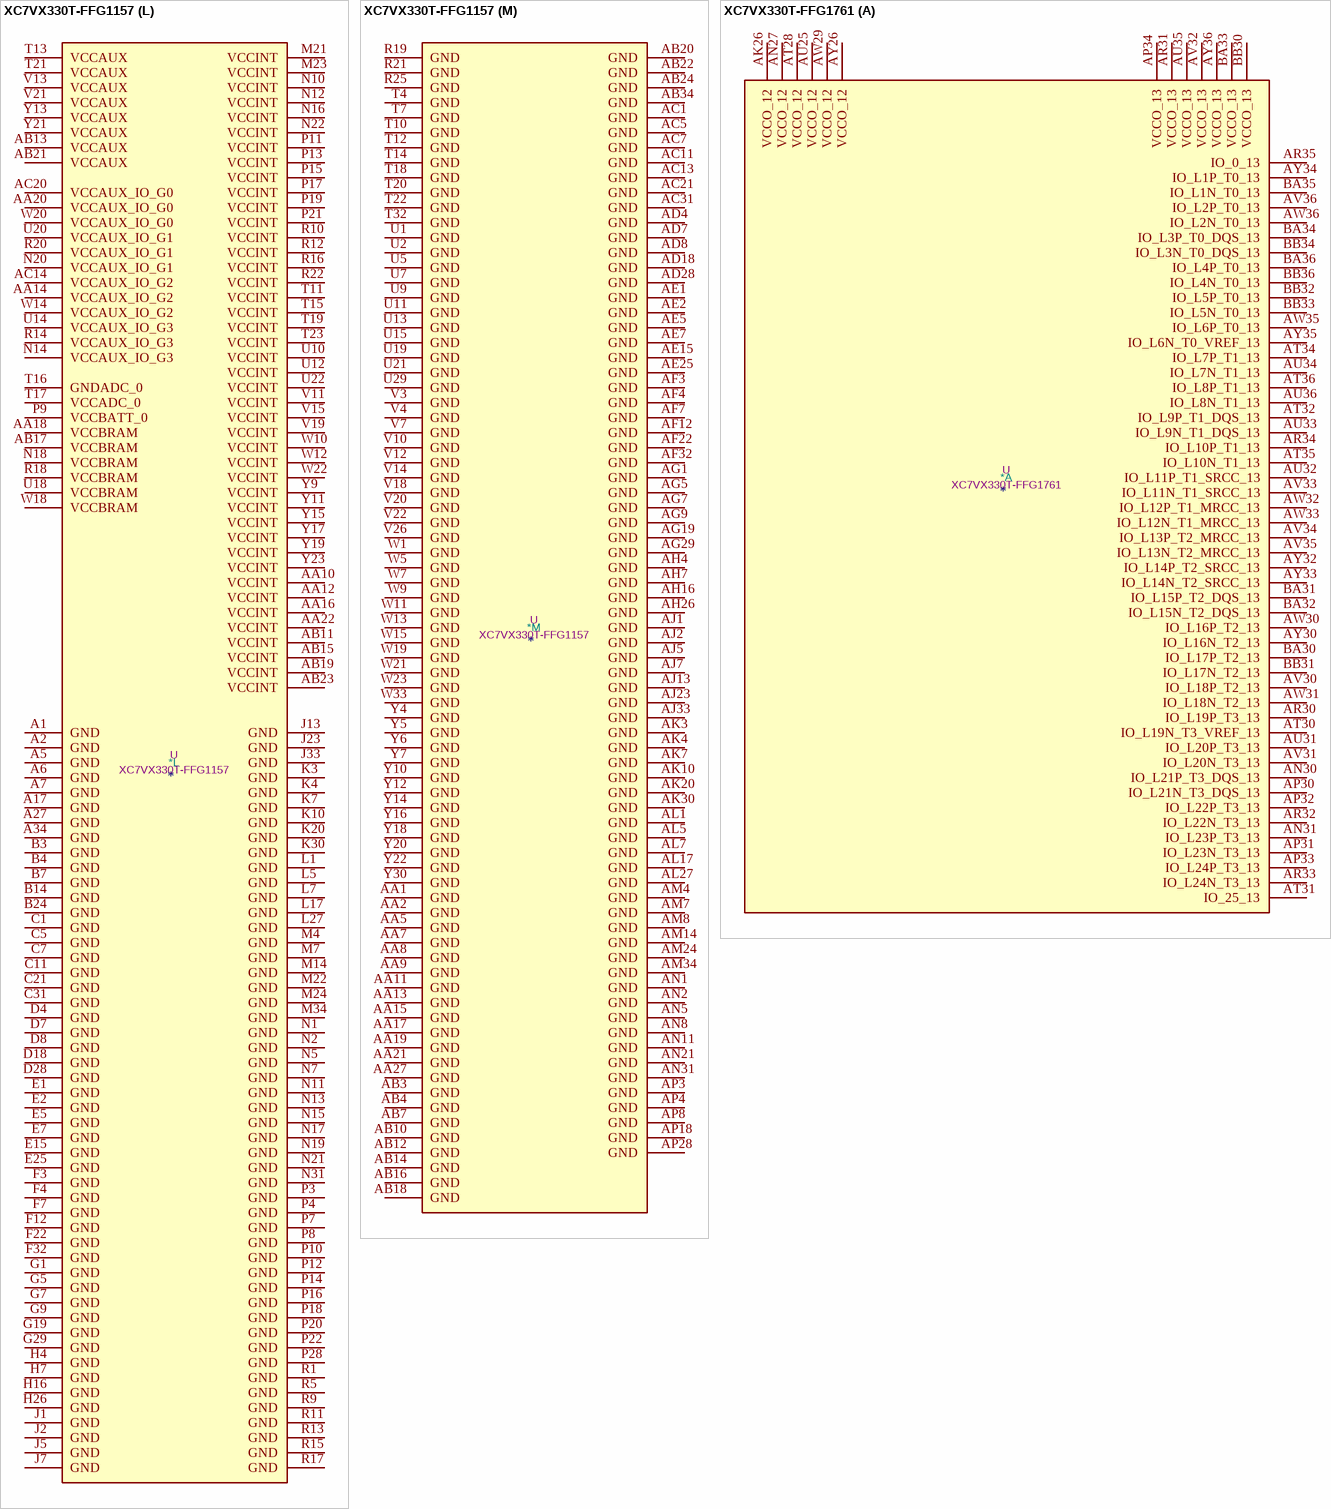
[diagram p54: symbols XC7VX330T-FFG1157 to XC7VX330T-FFG1761]